# Altium schematic symbol library PIC16F57.SchLib: 1 symbol
Pins are listed as number, name and electrical type; pins without a type are passive.

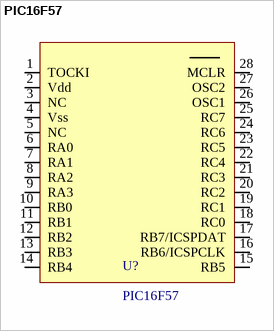
[diagram p0: symbol PIC16F57]

## PIC16F57
designator U?
footprint PIC(28) pin
pins: 1 TOCKI, 2 Vdd, 3 NC, 4 Vss, 5 NC, 6 RA0, 7 RA1, 8 RA2, 9 RA3, 10 RB0, 11 RB1, 12 RB2, 13 RB3, 14 RB4, 15 RB5, 16 RB6/ICSPCLK, 17 RB7/ICSPDAT, 18 RC0, 19 RC1, 20 RC2, 21 RC3, 22 RC4, 23 RC5, 24 RC6, 25 RC7, 26 OSC1, 27 OSC2, 28 MCLR